# Altium schematic symbol library ICs.SchLib: 32 symbols
Pins are listed as number, name and electrical type; pins without a type are passive.

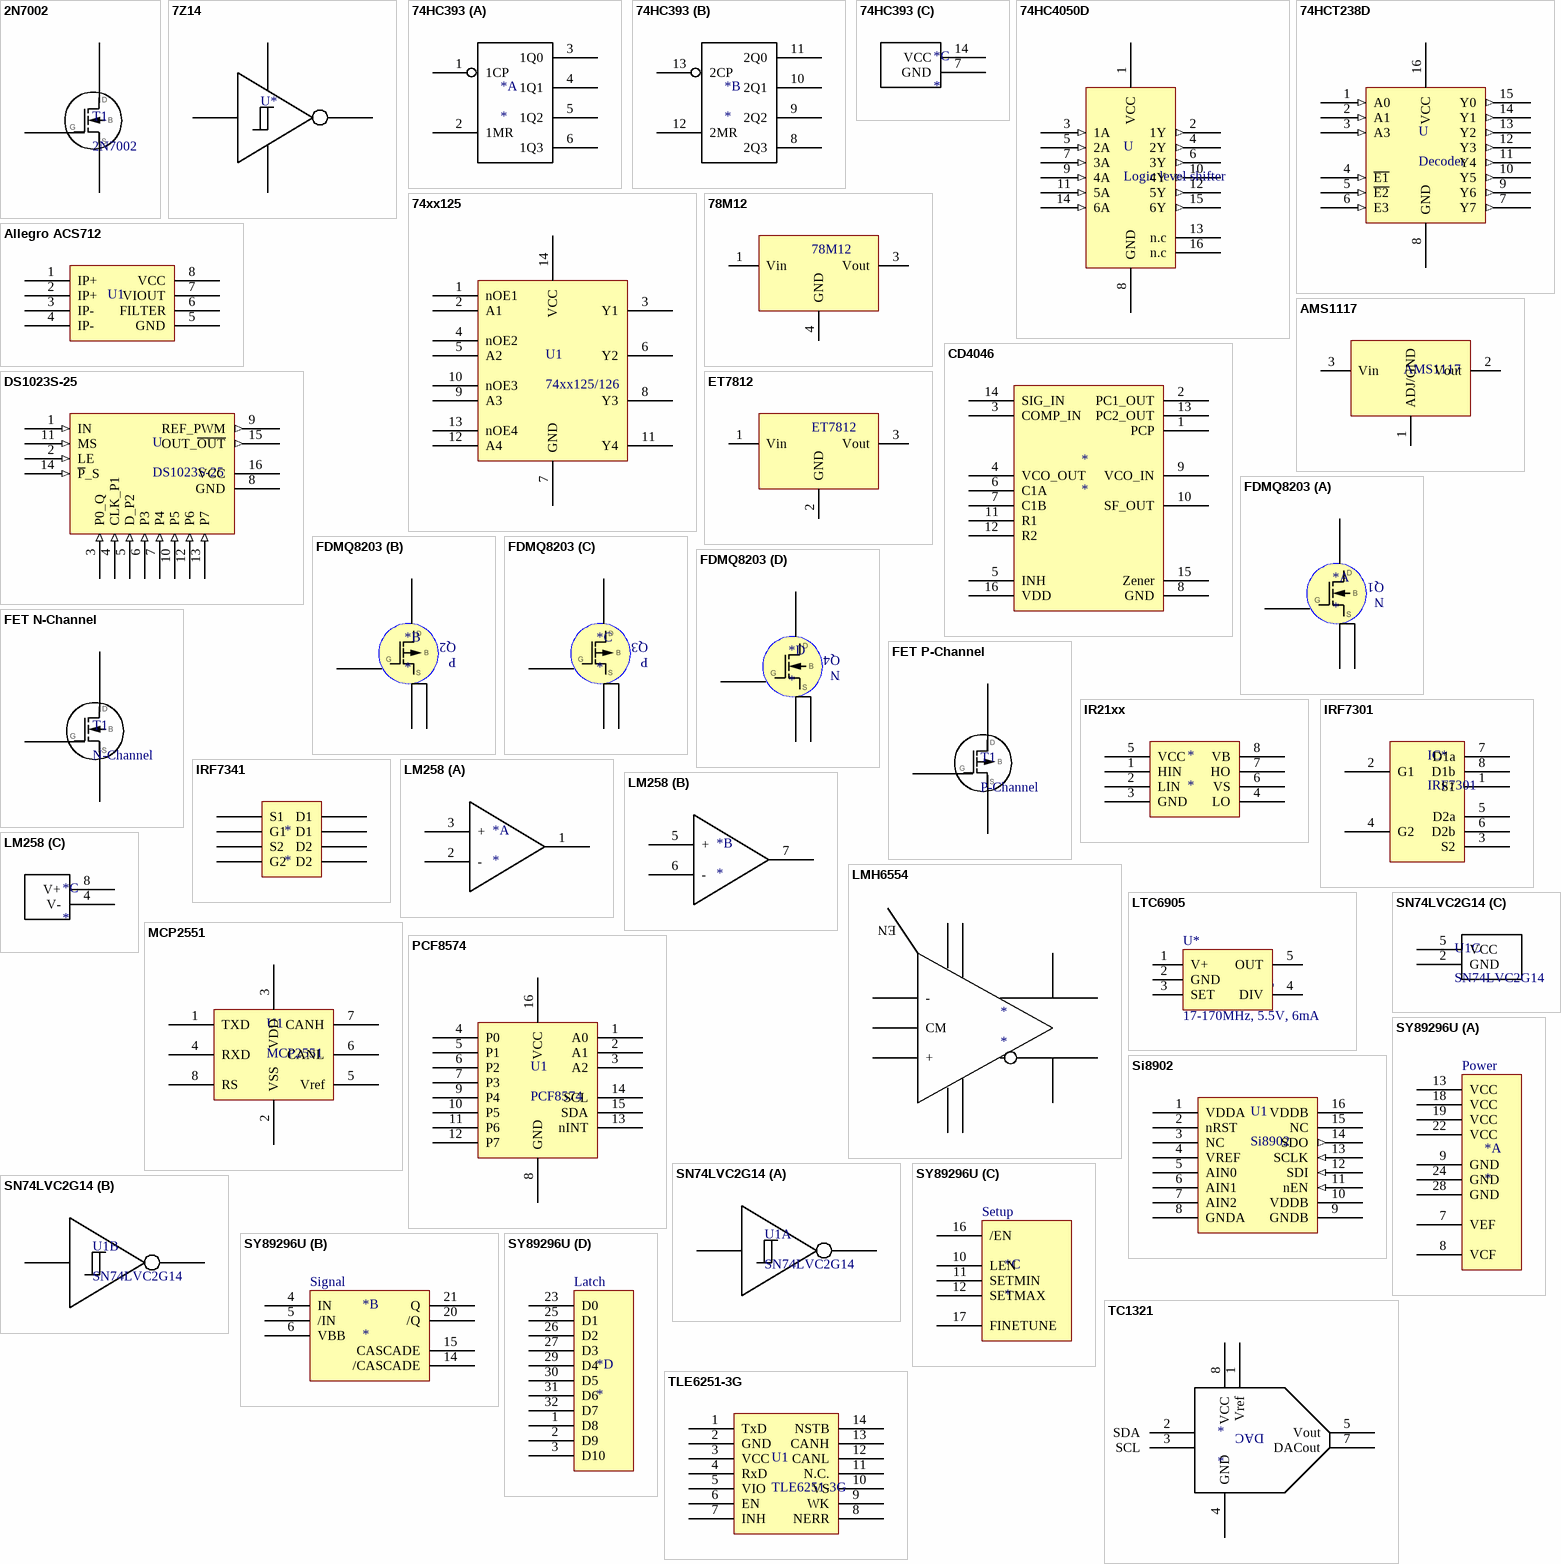
[diagram p0: symbols 2N7002 to TLE6251-3G]

## 2N7002
designator T1
N-FET
footprint SOT-23-3
pins: 1, 2, 3

## 7Z14
designator U*  (value not drawn)
Inverter with Schmitt-Trigger
footprint SOT-23-5 (SOT-23/SC-74A; 5 Leads; Body 3 x 3.1 mm, inc. leads (LxW max))
pins: 2 A, 3 GND, 4 Y, 5 VCC

## 74HC393
designator *
Dual 4-Bit Counter
footprint SOIC-14 (SOIC, 8-Leads, Body 4.9x3.9mm, Pitch 1.27mm, IPC High Density)
part A pins: 1 1CP, 2 1MR, 3 1Q0, 4 1Q1, 5 1Q2, 6 1Q3
part B pins: 8 2Q3, 9 2Q2, 10 2Q1, 11 2Q0, 12 2MR, 13 2CP
part C pins: 7 GND, 14 VCC

## 74HC4050D
designator U, comment Logic level shifter
Manufacturing Name: Nexperia; Manufacturing Part Nr.: 74HC4050D,652; Value: 6-bit Buffer 2V-to-6V; Datasheet: https://docs-emea.rs-online.com/webdocs/14f5/0900766b814f5786.pdf; Link: https://de.rs-online.com/web/p/puffer-linedriver-kombinationen/4836544/; Price: 0,185 €; Supplier Name: RS; Supplier Part Nr.: 483-6544; Type: Level Shifter
footprint SOIC16 (16-Pin Small Outline Integrated Circuit 1.27 mm Pitch, IPC High Density)
pins: 1 VCC, 2 1Y (out), 3 1A (in), 4 2Y (out), 5 2A (in), 6 3Y (out), 7 3A (in), 8 GND, 9 4A (in), 10 4Y (out), 11 5A (in), 12 5Y (out), 13 n.c, 14 6A (in), 15 6Y (out), 16 n.c

## 74HCT238D
designator U, comment Decoder
3-to-8 line decoder; Manufacturing Name: Nexperia; Manufacuring Part Nr.: 74HCT238D,652; Value: VI = GND to VCC − 1.5 V, VCC-Max=5,5V; Datasheet: https://docs-emea.rs-online.com/webdocs/0466/0900766b804661f9.pdf; Link: https://de.rs-online.com/web/p/decoder-und-demultiplexer/4836718/; Supplier Name: RS; Supplier Part Nr.: 483-6718; Type: 3-to-8 Line Decoder, Demultiplexer, Non Inverting; Price: 0,336€
footprint SOIC16 (16-Pin Small Outline Integrated Circuit 1.27 mm Pitch, IPC High Density)
pins: 1 A0 (in), 2 A1 (in), 3 A3 (in), 4 ~{E1} (in), 5 ~{E2} (in), 6 E3 (in), 7 Y7 (out), 8 GND, 9 Y6 (out), 10 Y5 (out), 11 Y4 (out), 12 Y3 (out), 13 Y2 (out), 14 Y1 (out), 15 Y0 (out), 16 VCC

## 74xx125
designator U1, comment 74xx125/126
Quad 3-State Buffers
footprint DIP-14
pins: 1 nOE1, 2 A1, 3 Y1, 4 nOE2, 5 A2, 6 Y2, 7 GND, 8 Y3, 9 A3, 10 nOE3, 11 Y4, 12 A4, 13 nOE4, 14 VCC

## 78M12
designator 78M12  (value not drawn)
LDO 12V
footprint TO-252-AA
pins: 1 Vin, 3 Vout, 4 GND

## Allegro ACS712
designator U1  (value not drawn)
Analog current sensor
footprint SOIC-8
pins: 1 IP+, 2 IP+, 3 IP-, 4 IP-, 5 GND, 6 FILTER, 7 VIOUT, 8 VCC

## AMS1117
designator AMS1117
LDO 3.3V/5V/12V
footprint SOT-223-3
pins: 1 ADJ/GND, 2 Vout, 3 Vin

## CD4046
designator *
PLL / VCO
footprint SOIC-16 (SOIC, 8-Leads, Body 4.9x3.9mm, Pitch 1.27mm, IPC High Density)
pins: 1 PCP, 2 PC1_OUT, 3 COMP_IN, 4 VCO_OUT, 5 INH, 6 C1A, 7 C1B, 8 GND, 9 VCO_IN, 10 SF_OUT, 11 R1, 12 R2, 13 PC2_OUT, 14 SIG_IN, 15 Zener, 16 VDD

## DS1023S-25
designator U
8-Bit Programmable Timing Element; Manufacturing Name: Maxim; Manufacturing Part Nr.: DS1023S-25+; Value: 0.25ns, 0.5ns,1ns,2ns,5ns; Datasheet: https://docs-emea.rs-online.com/webdocs/1253/0900766b81253bf9.pdf; Link: https://de.rs-online.com/web/p/verzogerungsschaltkreise/7858673/; Price: 12,61 €; Supplier Name: RS; Supplier Part Nr.: 785-8673; Type: Verzögerungsleitung IC
footprint SOIC16_W (16-Pin Small Outline Integrated Circuit 1.27 mm Pitch, IPC High Density)
pins: 1 IN (in), 2 LE (in), 3 P0_Q (in), 4 CLK_P1 (in), 5 D_P2 (in), 6 P3 (in), 7 P4 (in), 8 GND, 9 REF_PWM (out), 10 P5 (in), 11 MS (in), 12 P6 (in), 13 P7 (in), 14 ~{P}_S (in), 15 OUT_~{OUT} (out), 16 VCC

## ET7812
designator ET7812  (value not drawn)
LDO 12V
footprint TO-220-AB
pins: 1 Vin, 2 GND, 3 Vout

## FDMQ8203
designator *
Quad FET 2xN,2xP
part A pins: 1 G1, 2 S1, 3 S1, 13 D1
part B pins: 4 G2, 5 S2, 6 S2, 14 D2
part C pins: 7 S3, 8 S3, 9 G3, 15 D3
part D pins: 10 S4, 11 S4, 12 G4, 16 D4
part A text: Q1; N
part B text: Q2; P
part C text: Q3; P
part D text: Q4; N

## FET N-Channel
designator T1, comment N-Channel
Enhancement Type
pins: D, G, S

## FET P-Channel
designator T1, comment P-Channel
Enhancement Type
pins: D, G, S

## IR21xx
designator *
High and Low Side Driver
footprint SOIC-8 (SOIC, 8-Leads, Body 4.9x3.9mm, Pitch 1.27mm, IPC High Density)
pins: 1 HIN, 2 LIN, 3 GND, 4 LO, 5 VCC, 6 VS, 7 HO, 8 VB

## IRF7301
designator IC*
Dual N-FET
footprint SOIC8 (SOIC, 8-Leads, Body 4.9x3.9mm, Pitch 1.27mm, IPC High Density)
pins: 1 S1, 2 G1, 3 S2, 4 G2, 5 D2a, 6 D2b, 7 D1a, 8 D1b

## IRF7341
designator *
Dual N-FET
pins: 1 S1, 2 G1, 3 S2, 4 G2, 5 D2, 6 D2, 7 D1, 8 D1

## LM258
designator *
Dual OpAmp
footprint SOIC-8 (SOIC, 8-Leads, Body 4.9x3.9mm, Pitch 1.27mm, IPC High Density)
part A pins: 1 OUT, 2 -, 3 +
part B pins: 5 +, 6 -, 7 OUT
part C pins: 4 V-, 8 V+

## LMH6554
designator *
HF OpAmp
footprint UQFN-14
pins: 1 V+, 2 CM, 3 V-, 4 FB+, 5 -, 6 +, 7 FB-, 8 V-, 9 VEN, 10 V+, 12 OUT-, 13 OUT+
text: EN

## LTC6905
designator U*, comment 17-170MHz, 5.5V, 6mA  Type: LTC6905
VCO with 17MHz to 170MHz; Manufacturing Name: Linear Technology; Manufacturing Part Nr.: LTC6905IS5#TRMPBF; Preis: 4,3; Tolerance: ±0.5%; Datasheet: http://www.digikey.de/product-detail/de/LTC6905IS5%23TRMPBF/LTC6905IS5%23TRMPBFCT-ND/3830420; Supplier Name: Digi-Key; Supplier Part Nr.: LTC6905IS5#TRMPBFCT-ND; Supplier Part Nr. Reel: LTC6905IS5#TRMPBFDKR-ND; Value: 17-170MHz, 5.5V, 6mA; WMS: -
footprint SOT-23-5 (SOT-23/SC-74A; 5 Leads; Body 3 x 3.1 mm, inc. leads (LxW max))
pins: 1 V+, 2 GND, 3 SET, 4 DIV, 5 OUT

## MCP2551
designator U1
CAN-Bus Transceiver
footprint DIP-8
pins: 1 TXD, 2 VSS, 3 VDD, 4 RXD, 5 Vref, 6 CANL, 7 CANH, 8 RS

## PCF8574
designator U1
8-Bit I/O-Expander
footprint SOIC-16W
pins: 1 A0, 2 A1, 3 A2, 4 P0, 5 P1, 6 P2, 7 P3, 8 GND, 9 P4, 10 P5, 11 P6, 12 P7, 13 nINT, 14 SCL, 15 SDA, 16 VCC

## Si8902
designator U1
Isolated 10-Bit ADC with SPI
footprint SOIC-16W
pins: 1 VDDA, 2 nRST, 3 NC, 4 VREF, 5 AIN0, 6 AIN1, 7 AIN2, 8 GNDA, 9 GNDB, 10 VDDB, 11 nEN (in), 12 SDI (in), 13 SCLK (in), 14 SDO (out), 15 NC, 16 VDDB

## SN74LVC2G14
designator U1
Dual Inverter with Schmitt-Trigger
footprint SOT-23-6
part A pins: 1 1A, 6 1Y
part B pins: 3 2A, 4 2Y
part C pins: 2 GND, 5 VCC

## SY89296U
designator *
10-Bit Programmable Delay; Website: http://www.microchip.com/wwwproducts/en/SY89296; Datasheet: http://ww1.microchip.com/downloads/en/DeviceDoc/sy89296u.pdf
footprint TQFP-32 (TQFP, 32 Leads, 7,00x7,00mm Body, 0,80mm Pitch, IPC Medium Density)
part A pins: 7 VEF, 8 VCF, 9 GND, 13 VCC, 18 VCC, 19 VCC, 22 VCC, 24 GND, 28 GND
part B pins: 4 IN, 5 /IN, 6 VBB, 14 /CASCADE, 15 CASCADE, 20 /Q, 21 Q
part C pins: 10 LEN, 11 SETMIN, 12 SETMAX, 16 /EN, 17 FINETUNE
part D pins: 1 D8, 2 D9, 3 D10, 23 D0, 25 D1, 26 D2, 27 D3, 29 D4, 30 D5, 31 D6, 32 D7
part A text: Power
part B text: Signal
part C text: Setup
part D text: Latch

## TC1321
designator *
DAC 10-Bit Two-Wire
footprint SOIC-8 (SOIC, 8-Leads, Body 4.9x3.9mm, Pitch 1.27mm, IPC High Density)
pins: 1 Vref, 2 SDA, 3 SCL, 4 GND, 5 Vout, 7 DACout, 8 VCC
text: DAC

## TLE6251-3G
designator U1
CAN-Bus Transceiver
footprint SOIC-14
pins: 1 TxD, 2 GND, 3 VCC, 4 RxD, 5 VIO, 6 EN, 7 INH, 8 NERR, 9 WK, 10 VS, 11 N.C., 12 CANL, 13 CANH, 14 NSTB

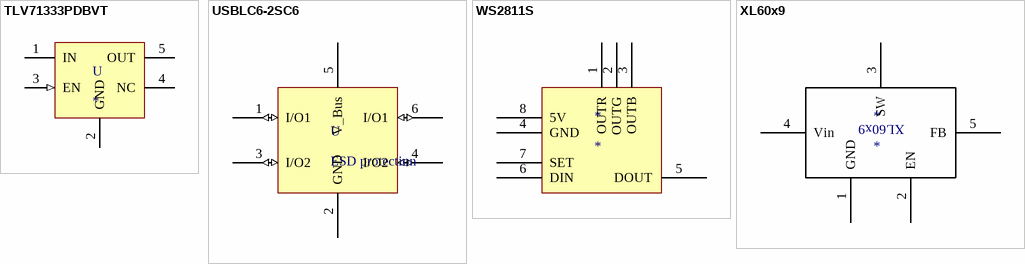
[diagram p1: symbols TLV71333PDBVT to XL60x9]

## TLV71333PDBVT
designator U
LDO 3,3V 150mA; Manufacturing Name: Texas Instruments; Manufacturing Part Nr.: TLV71333PDBVT; Value: 5.5 Vin,3.3Vout,150mA; Datasheet: http://pdf1.alldatasheet.com/datasheet-pdf/view/547238/TI1/TLV71333PDBVT.html; Link: https://de.rs-online.com/web/p/ldo-spannungsregler/9143052/; Type: LDO-Regler; Supplier Name: RS; Supplier Part Nr.: 914-3052
footprint SOT23-5 (SOT-23/SC-74A; 5 Leads; Body 3 x 3.1 mm, inc. leads (LxW max))
pins: 1 IN, 2 GND, 3 EN (in), 4 NC, 5 OUT (power)

## USBLC6-2SC6
designator U, comment ESD protection
Manufacturing Name: STMicroelectronics; Mamufacturing Part Nr.: USBLC6-2SC6; Value: 17V Vin-Max, 6V-Durchlagspannung; Datasheet: https://docs-emea.rs-online.com/webdocs/07bd/0900766b807bd47e.pdf; Link: https://de.rs-online.com/web/p/suppressordioden-tvs/6247693/; Supplier Part Nr.: 624-7693; Price: 0,414€; Supplier Name: RS; Type: TVS-Diode Array Uni-Directional
footprint SOT23-6 (SOT23, 6-Leads, Body 2.9x1.6mm, Pitch 0.95mm, Lead Span 2.7mm, IPC Medium Density)
pins: 1 I/O1 (io), 2 GND, 3 I/O2 (io), 4 I/O2 (io), 5 V_Bus, 6 I/O1 (io)

## WS2811S
designator *
RGB LED Controller
pins: 1 OUTR, 2 OUTG, 3 OUTB, 4 GND, 5 DOUT, 6 DIN, 7 SET, 8 5V

## XL60x9
designator *
Buck-/Boost-Converter
pins: 1 GND, 2 EN, 3 SW, 4 Vin, 5 FB